# Altium footprint library RC.PcbLib: 29 footprints (part 1 of 2)
Each footprint in its own frame and in the unit in brackets; x right, y up, seen from the top. Pads: shape width x height; smd on the part's side, far side on the other; paste and mask are expansions set on the pad; w line width, h text height; cw(c..) or ccw(c..) is an arc to the next point about the centre after c.
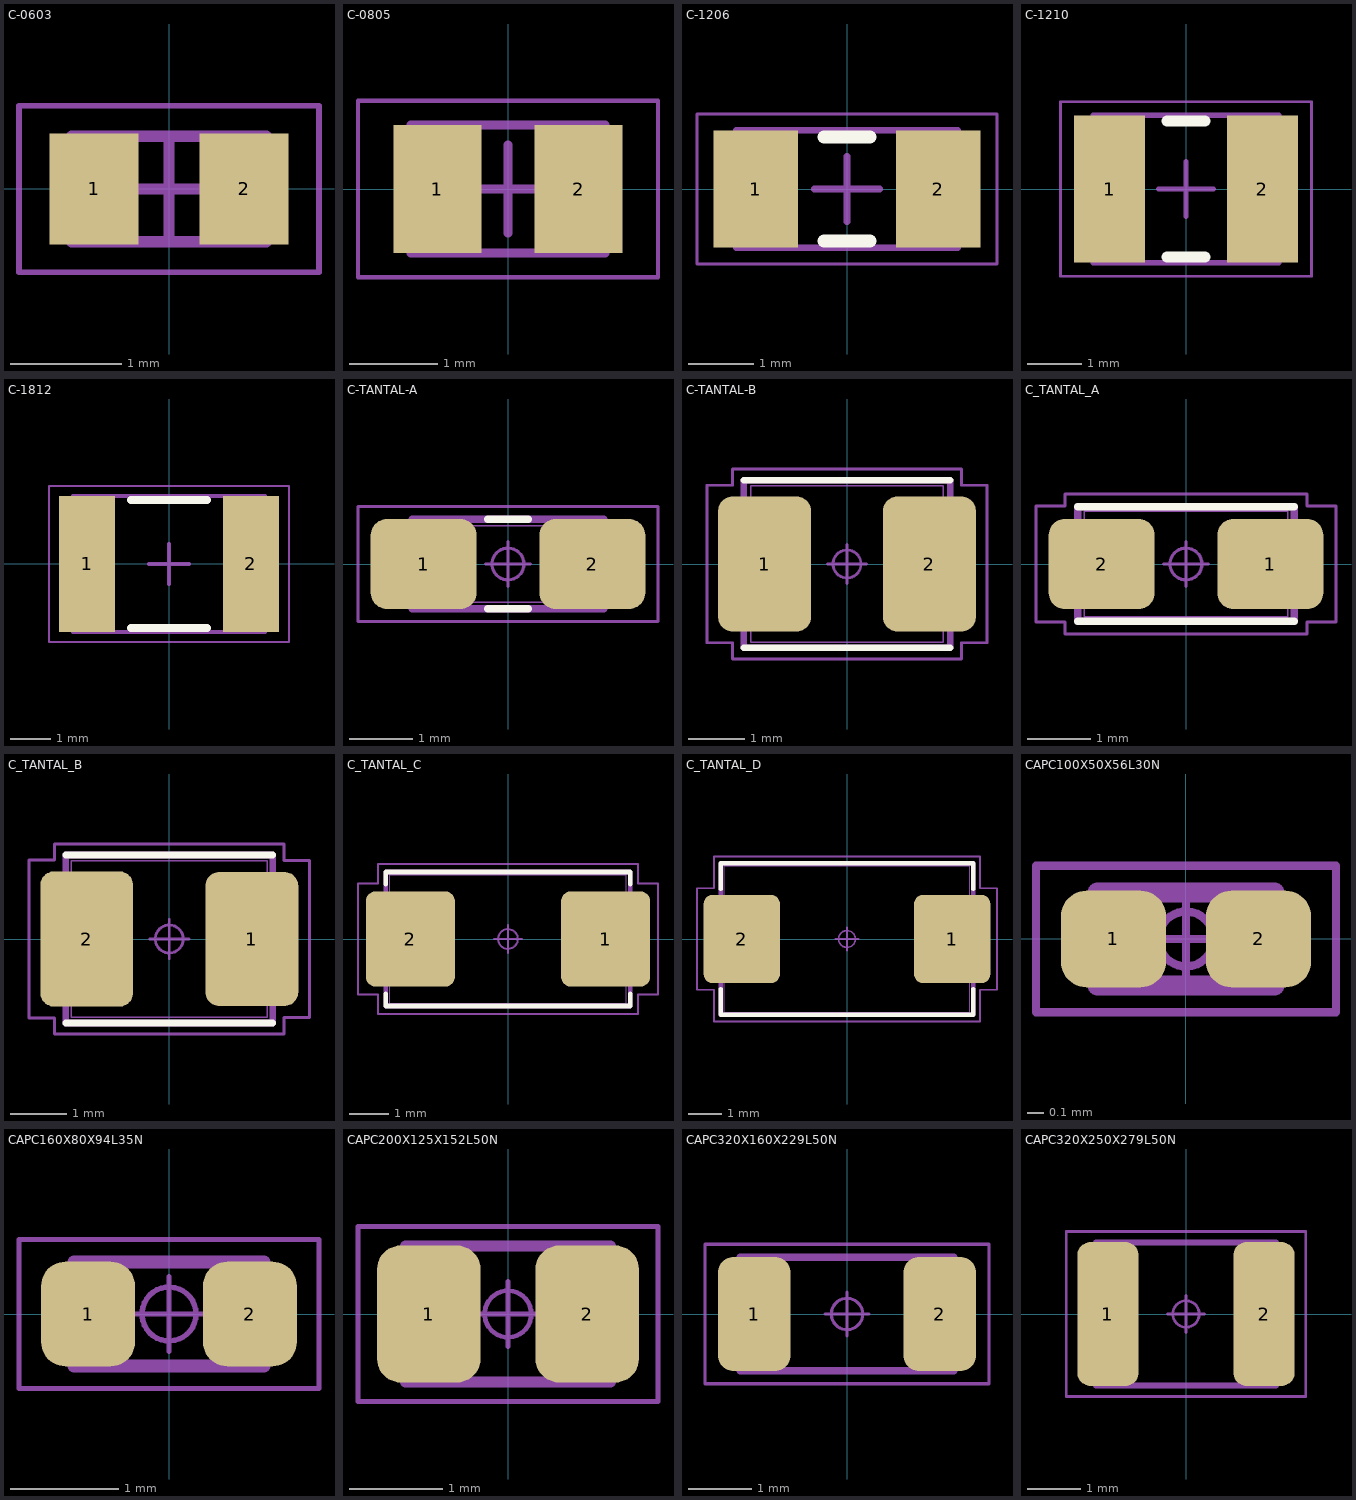
[diagram p0: the footprints below, top view; thin cyan lines are the x and y axes]

## C-0603 [mm] "Chip Capacitor, 2-Leads, Body 1,60x0,80mm, IPC Medium Density"
height 0.85
pads (2):
  rect 0.8x1 smd: 1(-0.675,0) 2(0.675,0)
Mechanical 13:
  lines w0.1: -0.875,-0.475 0.875,-0.475 0.875,0.475 -0.875,0.475 -0.875,-0.475
Mechanical 15:
  lines w0.05: -1.35,-0.75 1.35,-0.75 1.35,0.75 -1.35,0.75 -1.35,-0.75
  lines w0.1: -0.475,0 0.475,0 ; 0,-0.475 0,0.475
3D body "C_0603_1608Metric.step": height 0.8, standoff 0, extent -0.8,-0.4 0.8,0.4

## C-0805 [mm] "Chip Capacitor, 2-Leads, Body 2,00x1,25mm, IPC Medium Density"
height 1.1
pads (2):
  rect 1x1.45 smd: 1(-0.8,0) 2(0.8,0)
Mechanical 13:
  lines w0.1: -1.1,-0.725 -1.1,0.725 1.1,0.725 1.1,-0.725 -1.1,-0.725
Mechanical 15:
  lines w0.05: -1.7,-1 -1.7,1 1.7,1 1.7,-1 -1.7,-1
  lines w0.1: -0.5,0 0.5,0 ; 0,-0.5 0,0.5
3D body "C_0805_2012Metric.step": height 1.25, standoff 0, extent -1,-0.625 1,0.625

## C-1206 [mm] "Chip Capacitor, 2-Leads, Body 3,20x1,60mm, IPC Medium Density"
height 1.35
pads (2):
  rect 1.3x1.8 smd: 1(-1.4,0) 2(1.4,0)
Top Overlay:
  lines w0.2: -0.35,-0.8 0.35,-0.8 ; -0.35,0.8 0.35,0.8
Mechanical 13:
  lines w0.1: -1.7,-0.9 1.7,-0.9 1.7,0.9 -1.7,0.9 -1.7,-0.9
Mechanical 15:
  lines w0.05: -2.3,-1.15 2.3,-1.15 2.3,1.15 -2.3,1.15 -2.3,-1.15
  lines w0.1: -0.5,0 0.5,0 ; 0,-0.5 0,0.5
3D body "C_1206_3216Metric.step": height 1.6, standoff 0, extent -1.6,-0.8 1.6,0.8

## C-1210 [mm] "Chip Capacitor, 2-Leads, Body 3,20x2,50mm, IPC Medium Density"
height 1.35
pads (2):
  rect 1.3x2.7 smd: 1(-1.4,0) 2(1.4,0)
Top Overlay:
  lines w0.2: -0.35,-1.25 0.35,-1.25 ; -0.35,1.25 0.35,1.25
Mechanical 13:
  lines w0.1: -1.7,-1.35 1.7,-1.35 1.7,1.35 -1.7,1.35 -1.7,-1.35
Mechanical 15:
  lines w0.05: -2.3,-1.6 2.3,-1.6 2.3,1.6 -2.3,1.6 -2.3,-1.6
  lines w0.1: -0.5,0 0.5,0 ; 0,-0.5 0,0.5
3D body "C_1210_3225Metric.step": height 2.5, standoff 0, extent -1.6,-1.25 1.6,1.25

## C-1812 [mm] "Chip Capacitor, 2-Leads, Body 4,50x3,20mm, IPC Medium Density"
height 1.35
pads (2):
  rect 1.4x3.4 smd: 1(-2.05,0) 2(2.05,0)
Top Overlay:
  lines w0.2: -0.95,-1.6 0.95,-1.6 ; -0.95,1.6 0.95,1.6
Mechanical 13:
  lines w0.1: -2.4,-1.7 2.4,-1.7 2.4,1.7 -2.4,1.7 -2.4,-1.7
Mechanical 15:
  lines w0.05: -3,-1.95 3,-1.95 3,1.95 -3,1.95 -3,-1.95
  lines w0.1: -0.5,0 0.5,0 ; 0,-0.5 0,0.5
3D body "C_1812_4532Metric.step": height 2.5, standoff 0, extent -2.25,-1.6 2.25,1.6

## C-TANTAL-A [mm] "Capacitor, Polarized, Molded Body; 3.20 mm L X 1.20 mm W X 1.80 mm H body"
height 1.8
pads (2):
  rrect35% 1.66x1.41 smd: 1(-1.325,0) 2(1.325,0)
Top Overlay:
  lines w0.12: -0.315,-0.7 0.315,-0.7 ; -0.315,0.7 0.315,0.7
Mechanical 11:
  lines w0.12: -1.5,-0.7 1.5,-0.7 1.5,0.7 -1.5,0.7 -1.5,-0.7
Mechanical 12:
  lines w0.025: -1.6,-0.55 -1.6,0.55 -0.75,0.55 -0.75,-0.55 -1.6,-0.55 ; -1.4,-0.6 1.4,-0.6 1.4,0.6 -1.4,0.6 -1.4,-0.6 ; 0.75,-0.55 1.6,-0.55 1.6,0.55 0.75,0.55 0.75,-0.55
Mechanical 15:
  circle w0.05: c0,0 r0.25
  lines w0.05: -0.35,0 0.35,0 ; 0,-0.35 0,0.35 ; -2.355,-0.905 -2.355,0.905 2.355,0.905 2.355,-0.905 -2.355,-0.905
3D body "CAPPM320X120X180L85X110.STEP": height 1.8, standoff 0, extent -1.6,-0.6 1.6,0.6

## C-TANTAL-B [mm] "Capacitor, Polarized, Molded Body; 3.45 mm L X 2.80 mm W X 2.10 mm H body"
height 2.1
pads (2):
  rrect30% 1.66x2.42 smd: 1(-1.475,0) 2(1.475,0)
Top Overlay:
  lines w0.12: -1.85,-1.5 1.85,-1.5 ; -1.85,1.5 1.85,1.5
Mechanical 11:
  lines w0.12: -1.85,-1.5 -1.85,1.5 1.85,1.5 1.85,-1.5 -1.85,-1.5
Mechanical 12:
  lines w0.025: -1.75,-1.1 -0.9,-1.1 -0.9,1.1 -1.75,1.1 -1.75,-1.1 ; -1.725,-1.4 -1.725,1.4 1.725,1.4 1.725,-1.4 -1.725,-1.4 ; 0.9,-1.1 0.9,1.1 1.75,1.1 1.75,-1.1 0.9,-1.1
Mechanical 15:
  circle w0.05: c0,0 r0.25
  lines w0.05: -0.35,0 0.35,0 ; 0,-0.35 0,0.35 ; -2.505,-1.41 -2.505,1.41 -2.05,1.41 -2.05,1.7 2.05,1.7 2.05,1.41 2.505,1.41 2.505,-1.41 2.05,-1.41 2.05,-1.7 -2.05,-1.7 -2.05,-1.41 -2.505,-1.41
3D body "CAPPM350X280X210L85X220.STEP": height 2.1, standoff 0, extent -1.75,-1.4 1.75,1.4

## C_TANTAL_A [mm] "Capacitor, Polarized, Molded Body; 3.20 mm L X 1.65 mm W X 1.80 mm H body"
height 1.8
pads (2):
  rrect35% 1.66x1.42 smd: 1(1.325,0) 2(-1.325,0)
Top Overlay:
  lines w0.12: -1.7,-0.9 1.7,-0.9 ; -1.7,0.9 1.7,0.9
Mechanical 11:
  lines w0.12: -1.7,-0.9 1.7,-0.9 1.7,0.9 -1.7,0.9 -1.7,-0.9
Mechanical 12:
  lines w0.025: -1.6,-0.825 1.6,-0.825 1.6,0.825 -1.6,0.825 -1.6,-0.825 ; -1.6,-0.6 -1.6,0.6 -0.75,0.6 -0.75,-0.6 -1.6,-0.6 ; 0.75,-0.6 1.6,-0.6 1.6,0.6 0.75,0.6 0.75,-0.6
Mechanical 15:
  circle w0.05: c0,0 r0.25
  lines w0.05: -0.35,0 0.35,0 ; 0,-0.35 0,0.35 ; -2.355,-0.91 -1.9,-0.91 -1.9,-1.1 1.9,-1.1 1.9,-0.91 2.355,-0.91 2.355,0.91 1.9,0.91 1.9,1.1 -1.9,1.1 -1.9,0.91 -2.355,0.91 -2.355,-0.91
Mechanical 16:
  text ".Designator" at 0,0 h1.2
3D body "CAPPM320X165X180L85X120.STEP": height 1.8, standoff 0, extent -1.6,-0.825 1.6,0.825

## C_TANTAL_B [mm] "Capacitor, Polarized, Molded Body; 3.50 mm L X 2.80 mm W X 2.10 mm H body"
height 2.1
pads (2):
  rrect30% 1.66x2.4 smd: 1(1.475,0)
  rrect30% 1.66x2.42 smd: 2(-1.475,0)
Top Overlay:
  lines w0.12: -1.85,-1.5 1.85,-1.5 ; -1.85,1.5 1.85,1.5
Mechanical 11:
  lines w0.12: -1.85,-1.5 1.85,-1.5 1.85,1.5 -1.85,1.5 -1.85,-1.5
Mechanical 12:
  lines w0.025: -1.75,-1.4 1.75,-1.4 1.75,1.4 -1.75,1.4 -1.75,-1.4 ; -1.75,-1.1 -1.75,1.1 -0.9,1.1 -0.9,-1.1 -1.75,-1.1 ; 0.9,-0.85 1.75,-0.85 1.75,0.85 0.9,0.85 0.9,-0.85
Mechanical 15:
  circle w0.05: c0,0 r0.25
  lines w0.05: -0.35,0 0.35,0 ; 0,-0.35 0,0.35 ; -2.505,-1.41 -2.05,-1.41 -2.05,-1.7 2.05,-1.7 2.05,-1.4 2.505,-1.4 2.505,1.4 2.05,1.4 2.05,1.7 -2.05,1.7 -2.05,1.41 -2.505,1.41 -2.505,-1.41
Mechanical 16:
  text ".Designator" at 0,0 h1.2
3D body "C_TANTAL_B.STEP": height 2.1, standoff 0, extent -1.75,-1.4 1.75,1.4

## C_TANTAL_C [mm] "Capacitor, Polarized, Molded Body; 6.00 mm L X 3.25 mm W X 2.80 mm H body"
height 2.8
pads (2):
  rrect22% 2.26x2.42 smd: 1(2.475,0) 2(-2.475,0)
Top Overlay:
  lines w0.12: -3.1,-1.39 -3.1,-1.7 3.1,-1.7 3.1,-1.39 ; -3.1,1.39 -3.1,1.7 3.1,1.7 3.1,1.39
Mechanical 11:
  lines w0.12: -3.1,-1.7 -3.1,1.7 3.1,1.7 3.1,-1.7 -3.1,-1.7
Mechanical 12:
  lines w0.025: -3,-1.625 -3,1.625 3,1.625 3,-1.625 -3,-1.625 ; -3,-1.1 -1.65,-1.1 -1.65,1.1 -3,1.1 -3,-1.1 ; 1.65,-1.1 1.65,1.1 3,1.1 3,-1.1 1.65,-1.1
Mechanical 15:
  circle w0.05: c0,0 r0.25
  lines w0.05: -0.35,0 0.35,0 ; 0,-0.35 0,0.35 ; -3.805,-1.41 -3.805,1.41 -3.3,1.41 -3.3,1.9 3.3,1.9 3.3,1.41 3.805,1.41 3.805,-1.41 3.3,-1.41 3.3,-1.9 -3.3,-1.9 -3.3,-1.41 -3.805,-1.41
Mechanical 16:
  text ".Designator" at 0,0 h1.2
3D body "C_TANTAL_C.STEP": height 2.8, standoff 0, extent -3,-1.625 3,1.625

## C_TANTAL_D [mm] "Capacitor, Polarized, Molded Body; 7.30 mm L X 4.35 mm W X 3.10 mm H body"
height 3.1
pads (2):
  rrect22% 2.26x2.62 smd: 1(3.125,0) 2(-3.125,0)
Top Overlay:
  lines w0.12: -3.75,-1.49 -3.75,-2.25 3.75,-2.25 3.75,-1.49 ; -3.75,1.49 -3.75,2.25 3.75,2.25 3.75,1.49
Mechanical 11:
  lines w0.12: -3.75,-2.25 3.75,-2.25 3.75,2.25 -3.75,2.25 -3.75,-2.25
Mechanical 12:
  lines w0.025: -3.65,-2.175 3.65,-2.175 3.65,2.175 -3.65,2.175 -3.65,-2.175 ; -3.65,-1.2 -3.65,1.2 -2.3,1.2 -2.3,-1.2 -3.65,-1.2 ; 2.3,-1.2 3.65,-1.2 3.65,1.2 2.3,1.2 2.3,-1.2
Mechanical 15:
  circle w0.05: c0,0 r0.25
  lines w0.05: -0.35,0 0.35,0 ; 0,-0.35 0,0.35 ; -4.455,-1.51 -3.95,-1.51 -3.95,-2.45 3.95,-2.45 3.95,-1.51 4.455,-1.51 4.455,1.51 3.95,1.51 3.95,2.45 -3.95,2.45 -3.95,1.51 -4.455,1.51 -4.455,-1.51
Mechanical 16:
  text ".Designator" at 0,0 h1.2
3D body "C_TANTAL_D.STEP": height 3.1, standoff 0, extent -3.65,-2.175 3.65,2.175

## CAPC100X50X56L30N [mm] "Capacitor, Chip; 1.00 mm L X 0.50 mm W X 0.56 mm H body"
height 0.56
pads (2):
  rrect52% 0.63x0.58 smd paste-0.63 mask+0: 1(-0.435,0) 2(0.435,0)
Mechanical 13:
  lines w0.12: -0.53,-0.28 0.53,-0.28 0.53,0.28 -0.53,0.28 -0.53,-0.28
Mechanical 15:
  circle w0.05: c0,0 r0.165
  lines w0.05: -0.22,0 0.22,0 ; 0,-0.22 0,0.22 ; -0.9,-0.44 0.9,-0.44 0.9,0.44 -0.9,0.44 -0.9,-0.44
3D body "CAP-0402.stp": height 0.5, standoff 0, extent -0.5,-0.25 0.5,0.25

## CAPC160X80X94L35N [mm] "Capacitor, Chip; 1.60 mm L X 0.80 mm W X 0.94 mm H body"
height 0.94
pads (2):
  rrect51% 0.87x0.97 smd paste-0.97 mask+0: 1(-0.75,0) 2(0.75,0)
Mechanical 13:
  lines w0.12: -0.88,-0.48 0.88,-0.48 0.88,0.48 -0.88,0.48 -0.88,-0.48
Mechanical 15:
  circle w0.05: c0,0 r0.25
  lines w0.05: -0.345,0 0.345,0 ; 0,-0.345 0,0.345 ; -1.39,-0.69 1.39,-0.69 1.39,0.69 -1.39,0.69 -1.39,-0.69
3D body "CAP-0603.stp": height 0.8, standoff 0, extent -0.8,-0.4 0.8,0.4

## CAPC200X125X152L50N [mm] "Capacitor, Chip; 2.00 mm L X 1.25 mm W X 1.52 mm H body"
height 1.52
pads (2):
  rrect45% 1.11x1.47 smd paste-1.47 mask+0: 1(-0.85,0) 2(0.85,0)
Mechanical 13:
  lines w0.12: -1.1,-0.73 -1.1,0.73 1.1,0.73 1.1,-0.73 -1.1,-0.73
Mechanical 15:
  circle w0.05: c0,0 r0.25
  lines w0.05: -0.35,0 0.35,0 ; 0,-0.35 0,0.35 ; -1.61,-0.94 -1.61,0.94 1.61,0.94 1.61,-0.94 -1.61,-0.94
3D body "CAP-0805.stp": height 1.25, standoff 0, extent -1,-0.625 1,0.625

## CAPC320X160X229L50N [mm] "Capacitor, Chip; 3.20 mm L X 1.60 mm W X 2.29 mm H body"
height 2.29
pads (2):
  rrect43% 1.16x1.82 smd paste-1.82 mask+0: 1(-1.475,0) 2(1.475,0)
Mechanical 13:
  lines w0.12: -1.7,-0.9 1.7,-0.9 1.7,0.9 -1.7,0.9 -1.7,-0.9
Mechanical 15:
  circle w0.05: c0,0 r0.25
  lines w0.05: -0.35,0 0.35,0 ; 0,-0.35 0,0.35 ; -2.26,-1.11 2.26,-1.11 2.26,1.11 -2.26,1.11 -2.26,-1.11
3D body "CAP-1206.stp": height 1.6, standoff 0, extent -1.6,-0.8 1.6,0.8

## CAPC320X250X279L50N [mm] "Capacitor, Chip; 3.20 mm L X 2.50 mm W X 2.79 mm H body"
height 2.79
pads (2):
  rrect43% 1.16x2.72 smd paste-2.72 mask+0: 1(-1.475,0) 2(1.475,0)
Mechanical 13:
  lines w0.12: -1.7,-1.35 1.7,-1.35 1.7,1.35 -1.7,1.35 -1.7,-1.35
Mechanical 15:
  circle w0.05: c0,0 r0.25
  lines w0.05: -0.35,0 0.35,0 ; 0,-0.35 0,0.35 ; -2.26,-1.56 2.26,-1.56 2.26,1.56 -2.26,1.56 -2.26,-1.56
3D body "CAP-1210.stp": height 2.5, standoff 0, extent -1.6,-1.25 1.6,1.25